# Altium schematic symbol library SCH - COMPARATOR - MICROCHIP MCP6566U SOT23.SCHLIB: 1 symbol
Pins are listed as number, name and electrical type; pins without a type are passive.

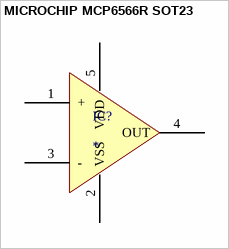
[diagram p0: symbol MICROCHIP MCP6566R SOT23]

## MICROCHIP MCP6566R SOT23
designator IC?
pins: 1 +, 2 VSS (power), 3 -, 4 OUT, 5 VDD (power)